# Altium footprint library C51118.PcbLib: 1 footprints
Each footprint in its own frame and in the unit in brackets; x right, y up, seen from the top. Pads: shape width x height; smd on the part's side, far side on the other; paste and mask are expansions set on the pad; w line width, h text height; cw(c..) or ccw(c..) is an arc to the next point about the centre after c.
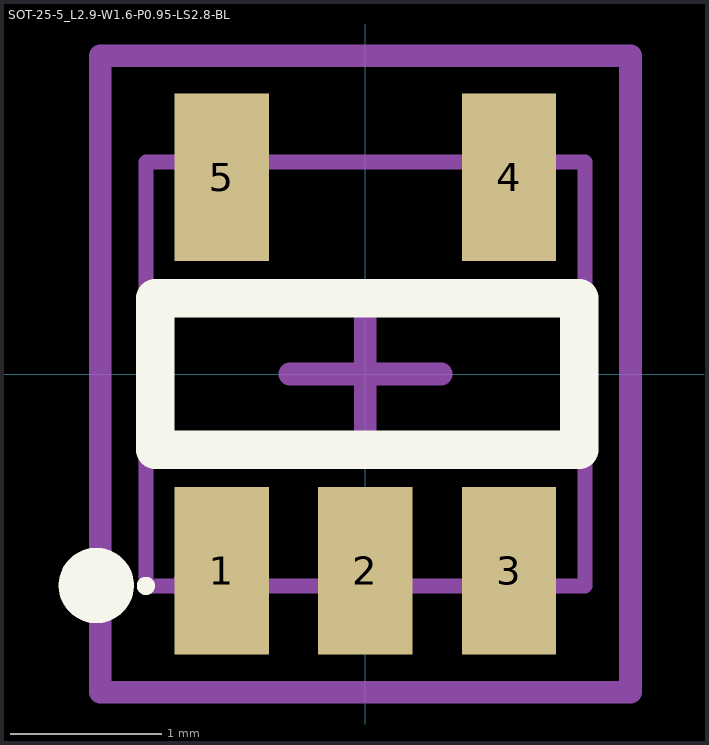
[diagram p0: the footprint, top view; thin cyan lines are the x and y axes]

## SOT-25-5_L2.9-W1.6-P0.95-LS2.8-BL [mil] "3.3V Positive Fixed SOT-25-5 Voltage Regulators - Linear, Low Drop Out (LDO) Regulators RoHS"
pads (5):
  rect 24.5x43.5 smd: 1(-37.39,-51.18) 2(-0.02,-51.18) 3(37.39,-51.18) 4(37.39,51.18) 5(-37.39,51.18)
Top Overlay:
  circle w2.36: c-57.1,-55.12 r1.18
  lines w9.8: -70.06,-59.9 cw(c-70.01,-55) -69.96,-59.9
  lines w10: -54.61,-19.7 -54.61,19.7 55.59,19.7 55.59,-19.7 -54.61,-19.7
Mechanical 11:
  circle w10: c-40.01,-55 r5
Mechanical 13:
  lines w3.94: -57.09,-55.12 -57.09,55.12 57.09,55.12 57.09,-55.12 -57.09,-55.12
Mechanical 15:
  lines w5.9: -19.7,0 19.7,0 ; 0,-19.7 0,19.7 ; -68.98,-82.77 -68.98,82.77 68.98,82.77 68.98,-82.77 -68.98,-82.77
3D body "SOT-25-5_L2.9-W1.6-P0.95-LS2.8-BL.step": height 1, standoff 0, extent -57.09,-55.12 57.09,55.12